# EAGLE library part TPS79533 (library BMC components)
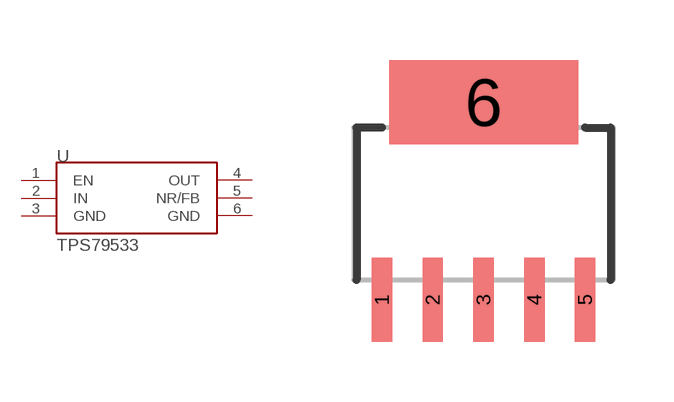
[diagram p2: symbol with the pads of SOT223-6; footprint SOT223-6]

Designator prefix -

## TPS79533  [SOT223-6]
1  EN
2  IN
3  GND
4  OUT
5  NR/FB
6  GND

## Footprint SOT223-6 (pad centres in mm)
smd 0.508 x 2.108: 1 -2.54,-4.94; 2 -1.27,-4.94; 3 0,-4.94; 4 1.27,-4.94; 5 2.54,-4.94
smd 4.724 x 2.108: 6 0,0